# Altium schematic symbol library Final_Project_Analog.SchLib: 5 symbols
Pins are listed as number, name and electrical type; pins without a type are passive.

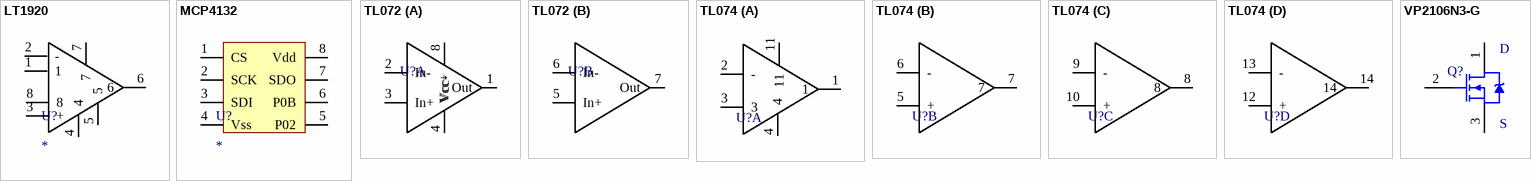
[diagram p0: symbols LT1920 to VP2106N3-G]

## LT1920
designator U?
Supplier 1: Digi-Key; Supplier Part Number 1: LT1920CN8#PBF-ND
footprint DIP8
pins: 1, 2 -, 3 +, 4, 5, 6, 7, 8

## MCP4132
designator U?
Digital Potentiometer
footprint DIP8
pins: 1 CS, 2 SCK, 3 SDI, 4 Vss, 5 P02, 6 P0B, 7 SDO, 8 Vdd

## TL072
designator U?  (value not drawn)
Manufacturer: Texas Instruments; Manufacturer Part Number: TL072IP; Amplifier Type: J-FET; Number of Circuits: 2; Slew Rate: 13 V/µs; Current - Supply: 1.4mA; Voltage - Supply, Single/Dual (±): 7 V ~ 36 V, ±3.5 V ~ 18 V; Supplier 1: Digi-Key; RoHS: RoHS Compliant; Category: Integrated Circuits (ICs); Stock 1: 2537; Pricing 1: 1=0.69, 10=0.607, 100=0.4655, 500=0.368, 1000=0.2944 (USD); Packaging: Tube; Part Status: Active; Output Type: -; -3db Bandwidth: -; Current - Output / Channel: -; Operating Temperature: -40°C ~ 85°C; Mounting Type: Through Hole; Package / Case: 8-DIP (0.300", 7.62mm); Supplier Device Package: 8-PDIP; ComponentLink1URL: http://www.ti.com/lit/ds/symlink/tl071a.pdf; ComponentLink1Description: http://www.ti.com/lit/ds/symlink/tl071a.pdf; Supplier Part Number 1: 296-14997-5-ND
footprint DIP8
part A pins: 1 Out, 2 In-, 3 In+, 4 Vcc-, 8 Vcc+
part B pins: 5 In+, 6 In-, 7 Out

## TL074
designator U?  (value not drawn)
Manufacturer: Texas Instruments; Manufacturer Part Number: TL074CN; Amplifier Type: J-FET; Number of Circuits: 4; Slew Rate: 13 V/µs; Gain Bandwidth Product: 3MHz; Current - Input Bias: 65pA; Voltage - Input Offset: 3mV; Current - Supply: 1.4mA; Voltage - Supply, Single/Dual (±): 7 V ~ 36 V, ±3.5 V ~ 18 V; Supplier 1: Digi-Key; RoHS: RoHS Compliant; Category: Integrated Circuits (ICs); Stock 1: 7481; Pricing 1: 1=0.58, 10=0.508, 100=0.3896, 500=0.308, 1000=0.2464, 2500=0.2233, 5000=0.2079, 10000=0.2002 (USD); Packaging: Tube; Output Type: -; -3db Bandwidth: -; Current - Output / Channel: -; Operating Temperature: 0°C ~ 70°C; Mounting Type: Through Hole; Package / Case: 14-DIP (0.300", 7.62mm); Supplier Device Package: 14-PDIP; ComponentLink1URL: http://www.ti.com/lit/ds/symlink/tl071a.pdf; ComponentLink1Description: http://www.ti.com/lit/ds/symlink/tl071a.pdf; Supplier Part Number 1: 296-1777-5-ND
footprint DIP14
part A pins: 1, 2 -, 3, 4, 11
part B pins: 5 +, 6 -, 7
part C pins: 8, 9 -, 10 +
part D pins: 12 +, 13 -, 14

## VP2106N3-G
designator Q?
Nch MOSFET; Manufacturer: Microchip Technology; Manufacturer Part Number: VP2106N3-G; FET Type: MOSFET P-Channel, Metal Oxide; FET Feature: Standard; Drain to Source Voltage (Vdss): 60V; Current - Continuous Drain (Id) @ 25°C: 250mA (Tj); Rds On (Max) @ Id, Vgs: 12 Ohm @ 500mA, 10V; Vgs(th) (Max) @ Id: 3.5V @ 1mA; Input Capacitance (Ciss) @ Vds: 60pF @ 25V; Power - Max: 1W; Supplier 1: Digi-Key; RoHS: RoHS Compliant; Category: Discrete Semiconductor Products; Stock 1: 3777; Pricing 1: 1=0.48, 25=0.4, 100=0.36 (USD); Packaging: Bulk; Part Status: Active; Gate Charge (Qg) @ Vgs: -; Operating Temperature: -55°C ~ 150°C (TJ); Mounting Type: Through Hole; Package / Case: TO-226-3, TO-92-3 (TO-226AA); Supplier Device Package: TO-92-3; ComponentLink1URL: http://www.microchip.com/mymicrochip/filehandler.aspx?ddocname=en570706; ComponentLink1Description: http://www.microchip.com/mymicrochip/filehandler.aspx?ddocname=en570706; Supplier Part Number 1: VP2106N3-G-ND
footprint TO92 package (Voltage reg + &  - , MOSFET)
pins: 1 D, 2 G, 3 S